# EAGLE library part ADM7154_NORM (library analog)
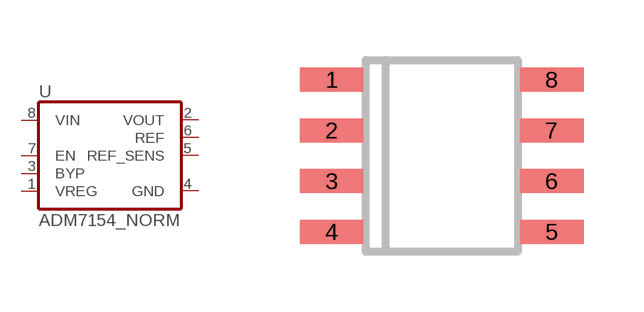
[diagram p3: symbol with the pads of SOIC-8; footprint SOIC-8]

Designator prefix -

## ADM7154_NORM  [SOIC-8]
1  VREG  hiz
2  VOUT  out
3  BYP  hiz
4  GND  out
5  REF_SENS  out
6  REF  out
7  EN  hiz
8  VIN  hiz

## Footprint SOIC-8 (pad centres in mm)
smd 1.6 x 0.6: 1 -2.75,1.905; 2 -2.75,0.635; 3 -2.75,-0.635; 4 -2.75,-1.905; 5 2.75,-1.905; 6 2.75,-0.635; 7 2.75,0.635; 8 2.75,1.905